# EAGLE library part PCDUINO (library sjg-pcduino)
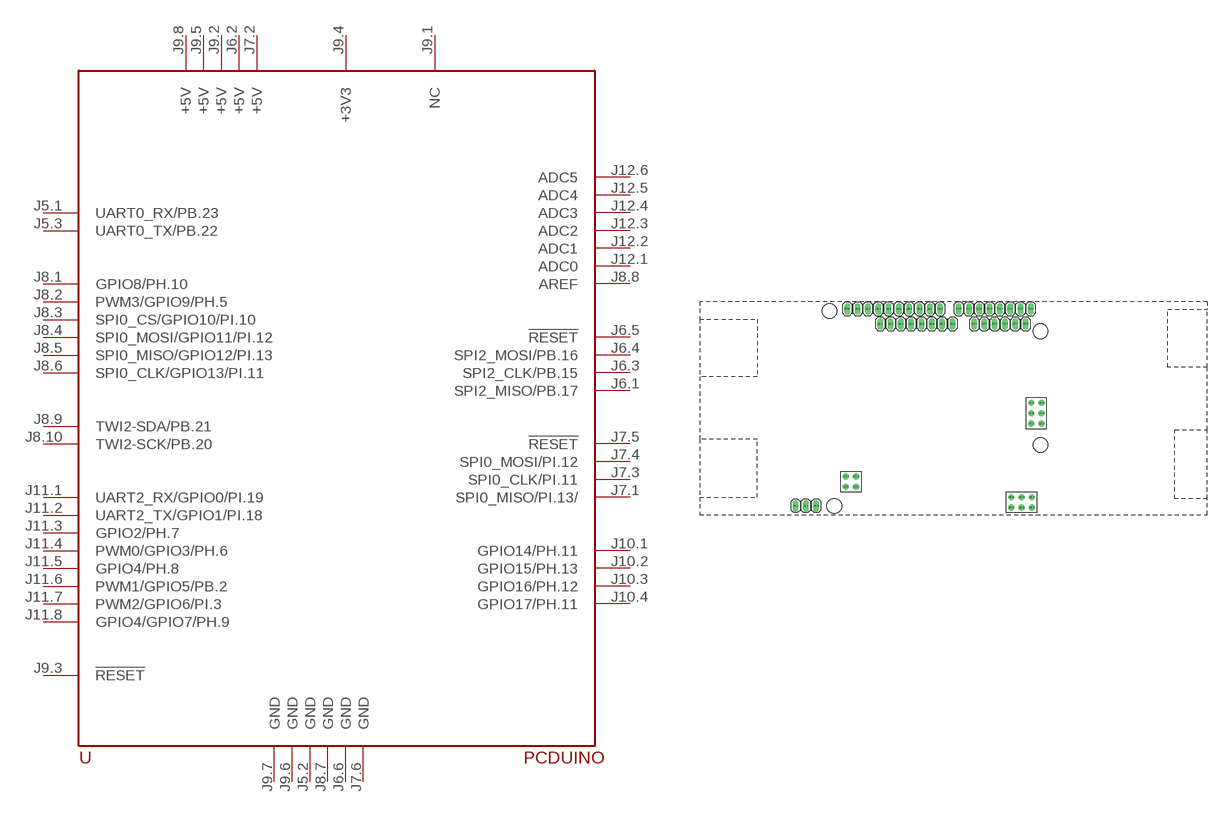
[diagram p0: symbol with the pads of PCDUINO; footprint PCDUINO]

Designator prefix -

## PCDUINO  [PCDUINO]
J5.1  UART0_RX/PB.23
J5.2  GND
J5.3  UART0_TX/PB.22
J6.1  SPI2_MISO/PB.17
J6.2  +5V
J6.3  SPI2_CLK/PB.15
J6.4  SPI2_MOSI/PB.16
J6.5  !RESET!
J6.6  GND
J7.1  SPI0_MISO/PI.13/
J7.2  +5V
J7.3  SPI0_CLK/PI.11
J7.4  SPI0_MOSI/PI.12
J7.5  !RESET!
J7.6  GND
J8.1  GPIO8/PH.10
J8.2  PWM3/GPIO9/PH.5
J8.3  SPI0_CS/GPIO10/PI.10
J8.4  SPI0_MOSI/GPIO11/PI.12
J8.5  SPI0_MISO/GPIO12/PI.13
J8.6  SPI0_CLK/GPIO13/PI.11
J8.7  GND
J8.8  AREF
J8.9  TWI2-SDA/PB.21
J8.10  TWI2-SCK/PB.20
J9.1  NC
J9.2  +5V
J9.3  !RESET!
J9.4  +3V3
J9.5  +5V
J9.6  GND
J9.7  GND
J9.8  +5V
J10.1  GPIO14/PH.11
J10.2  GPIO15/PH.13
J10.3  GPIO16/PH.12
J10.4  GPIO17/PH.11
J11.1  UART2_RX/GPIO0/PI.19
J11.2  UART2_TX/GPIO1/PI.18
J11.3  GPIO2/PH.7
J11.4  PWM0/GPIO3/PH.6
J11.5  GPIO4/PH.8
J11.6  PWM1/GPIO5/PB.2
J11.7  PWM2/GPIO6/PI.3
J11.8  GPIO4/GPIO7/PH.9
J12.1  ADC0
J12.2  ADC1
J12.3  ADC2
J12.4  ADC3
J12.5  ADC4
J12.6  ADC5

## Footprint PCDUINO (pad centres in mm)
drill 1.016 long: J5.1 -37.343,-21.971; J5.2 -34.803,-21.971; J5.3 -32.263,-21.971; J8.1 -1.74,26.529; J8.2 -4.28,26.529; J8.3 -6.82,26.529; J8.4 -9.36,26.529; J8.5 -11.9,26.529; J8.6 -14.44,26.529; J8.7 -16.98,26.529; J8.8 -19.52,26.529; J8.9 -22.06,26.529; J8.10 -24.6,26.529; J9.1 -16.486,22.84; J9.2 -13.946,22.84; J9.3 -11.406,22.84; J9.4 -8.866,22.84; J9.5 -6.326,22.84; J9.6 -3.786,22.84; J9.7 -1.246,22.84; J9.8 1.294,22.84; J11.1 20.601,26.519; J11.2 18.061,26.519; J11.3 15.521,26.519; J11.4 12.981,26.519; J11.5 10.441,26.519; J11.6 7.901,26.519; J11.7 5.361,26.519; J11.8 2.821,26.519; J12.1 6.613,22.84; J12.2 9.153,22.84; J12.3 11.693,22.84; J12.4 14.233,22.84; J12.5 16.773,22.84; J12.6 19.313,22.84
drill 1.016 octagon: J6.1 20.823,-22.352; J7.1 20.643,-1.69; J10.1 -22.45,-17.293
drill 1.016: J6.2 20.823,-19.812; J6.3 18.283,-22.352; J6.4 18.283,-19.812; J6.5 15.743,-22.352; J6.6 15.743,-19.812; J7.2 23.183,-1.69; J7.3 20.643,0.85; J7.4 23.183,0.85; J7.5 20.643,3.39; J7.6 23.183,3.39; J10.2 -24.99,-17.293; J10.3 -22.45,-14.753; J10.4 -24.99,-14.753
hole 3.6 at -27.819,-21.985
hole 3.6 at 22.982,21.015
hole 3.6 at -29.018,26.015
hole 3.6 at 22.982,-6.985